# Altium schematic symbol library MySchLib.SchLib: 3 symbols
Pins are listed as number, name and electrical type; pins without a type are passive.

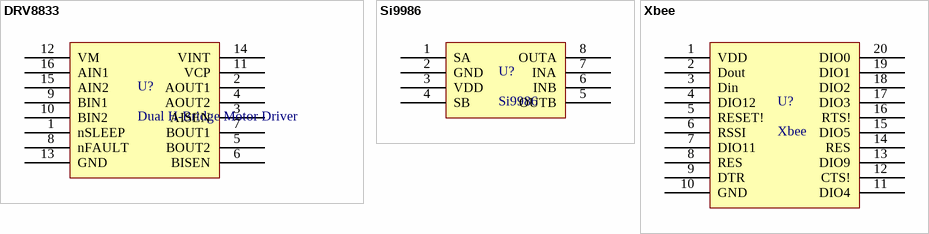
[diagram p0: symbols DRV8833 to Xbee]

## DRV8833
designator U?, comment Dual H-Bridge Motor Driver
footprint TSSOP16_M (Footprint not found)
pins: 1 nSLEEP, 2 AOUT1, 3 AISEN, 4 AOUT2, 5 BOUT2, 6 BISEN, 7 BOUT1, 8 nFAULT, 9 BIN1, 10 BIN2, 11 VCP, 12 VM, 13 GND, 14 VINT, 15 AIN2, 16 AIN1

## Si9986
designator U?
Buffered H-Bridge Driver with Integrate MOSFET
footprint NSO8_M (Footprint not found)
pins: 1 SA, 2 GND, 3 VDD, 4 SB, 5 OUTB, 6 INB, 7 INA, 8 OUTA

## Xbee
designator U?
pins: 1 VDD, 2 Dout, 3 Din, 4 DIO12, 5 RESET!, 6 RSSI, 7 DIO11, 8 RES, 9 DTR, 10 GND, 11 DIO4, 12 CTS!, 13 DIO9, 14 RES, 15 DIO5, 16 RTS!, 17 DIO3, 18 DIO2, 19 DIO1, 20 DIO0